# Altium footprint library PCBLib.PcbLib: 21 footprints (part 1 of 2)
Each footprint in its own frame and in the unit in brackets; x right, y up, seen from the top. Pads: shape width x height; smd on the part's side, far side on the other; paste and mask are expansions set on the pad; w line width, h text height; cw(c..) or ccw(c..) is an arc to the next point about the centre after c.
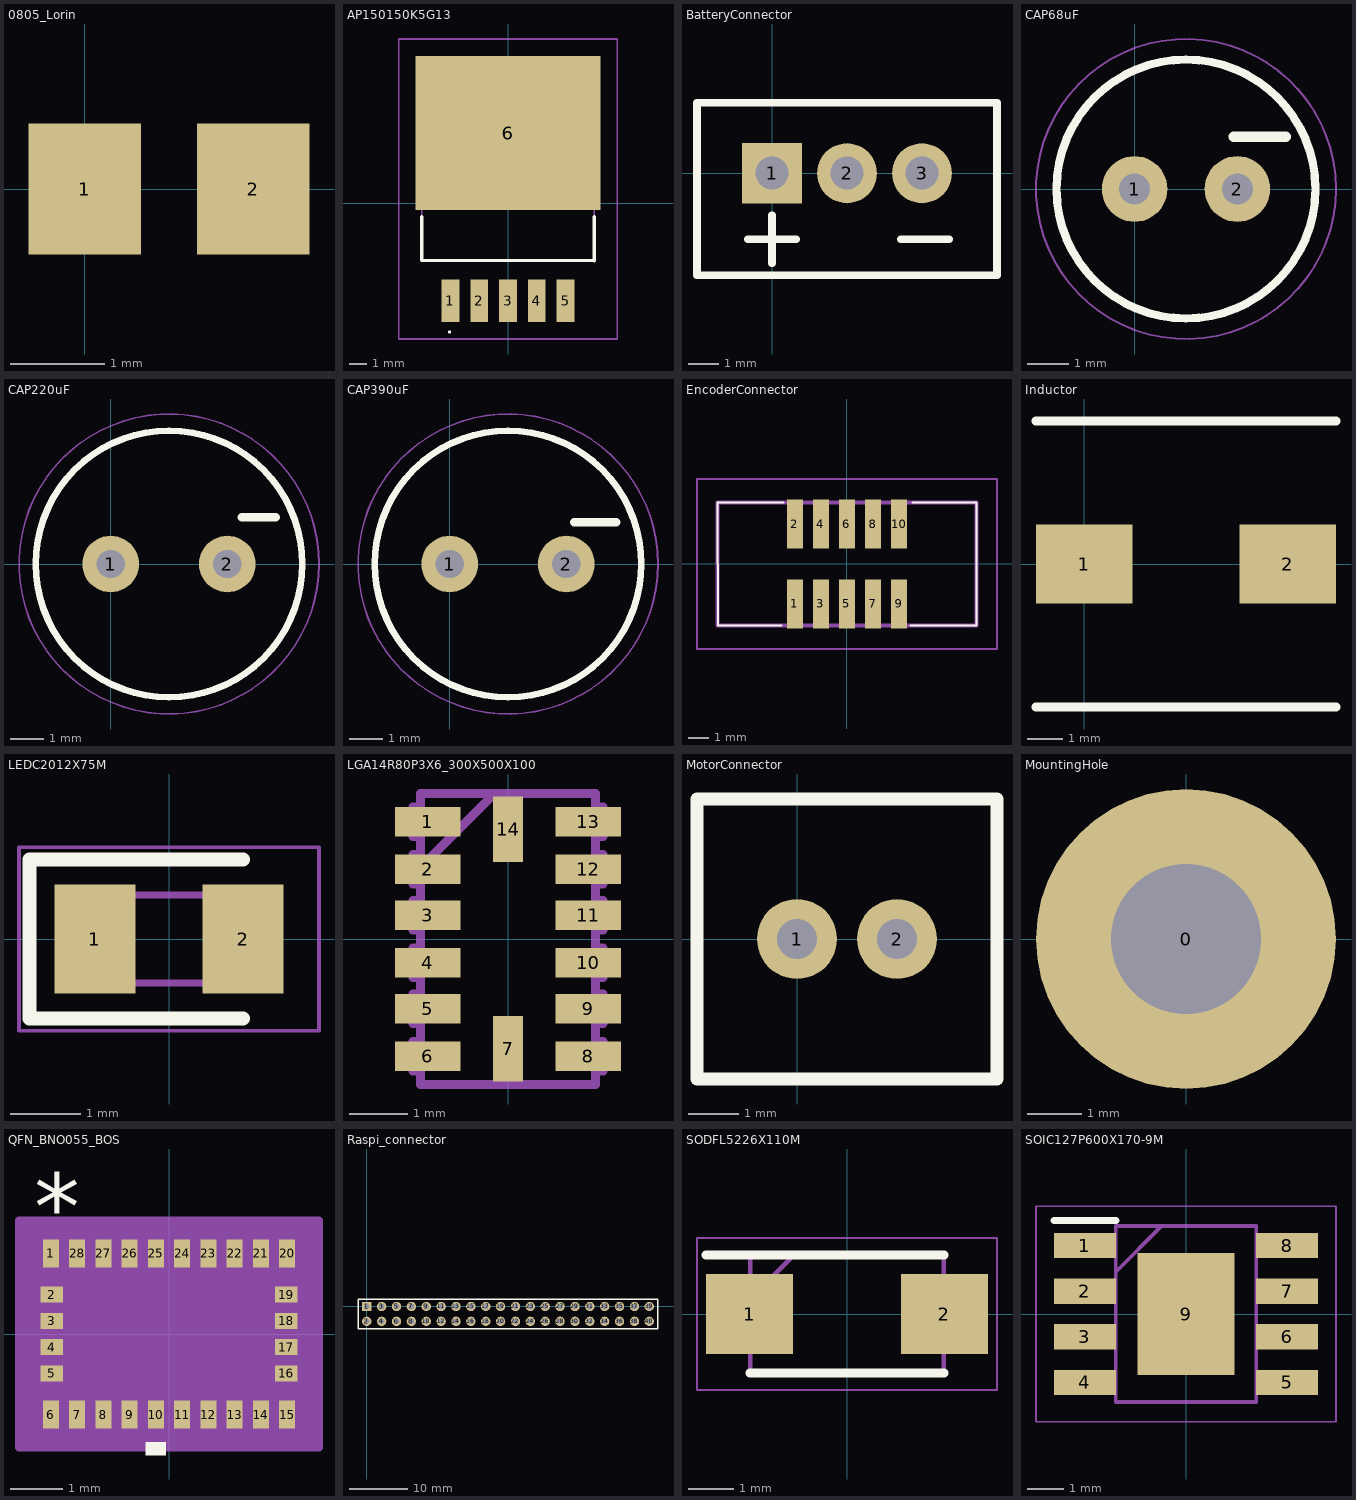
[diagram p0: the footprints below, top view; thin cyan lines are the x and y axes]

## 0805_Lorin [mm]
pads (2):
  rect 1.2x1.4 smd: 1(0,0) 2(1.8,0)

## AP150150K5G13 [mm]
pads (6):
  rect 1.05x2.5 smd: 1(-3.4,-5.765) 2(-1.7,-5.765) 3(0,-5.765) 4(1.7,-5.765) 5(3.4,-5.765)
  rect 10.9x9.1 smd: 6(0,4.135)
Top Overlay:
  lines w0.1: -3.5,-7.6 ccw(c-3.45,-7.6) -3.4,-7.6 ccw(c-3.45,-7.6) -3.5,-7.6
  lines w0.2: -5.08,-0.8 -5.08,-3.385 5.08,-3.4 5.08,-0.8
Mechanical 15:
  lines w0.1: -5.08,-3.385 -5.08,5.765 5.08,5.765 5.08,-3.385 -5.08,-3.385
Mechanical 20:
  lines w0.1: -6.45,-8.015 -6.45,9.685 6.45,9.685 6.45,-8.015 -6.45,-8.015

## BatteryConnector [mm]
pads (3):
  rect 2x2 hole 1.1: 1(0,0)
  round 2 hole 1.1: 2(2.5,0) 3(5,0)
Top Overlay:
  lines w0.254: -0.8,-2.2 0.8,-2.2 ; 0,-3 0,-1.4 ; 4.3,-2.2 5.9,-2.2 ; -2.5,-3.4 7.5,-3.4 7.5,2.35 -2.5,2.35 -2.5,-3.4

## CAP68uF [mm]
pads (2):
  round 1.6 hole 0.75: 1(0,0) 2(2.5,0)
Top Overlay:
  circle w0.2: c1.25,0 r3.15
  lines w0.254: 2.413,1.27 3.683,1.27
Mechanical 15:
  circle w0.1: c1.25,0 r3.15
Mechanical 20:
  circle w0.05: c1.25,0 r3.65

## CAP220uF [mm]
pads (2):
  round 1.7 hole 0.85: 1(0,0) 2(3.5,0)
Top Overlay:
  circle w0.2: c1.75,0 r4
  lines w0.254: 3.937,1.397 4.953,1.397
Mechanical 15:
  circle w0.1: c1.75,0 r4
Mechanical 20:
  circle w0.05: c1.75,0 r4.5

## CAP390uF [mm]
pads (2):
  round 1.7 hole 0.85: 1(0,0) 2(3.5,0)
Top Overlay:
  circle w0.2: c1.75,0 r4
  lines w0.254: 3.73,1.25 5,1.25
Mechanical 15:
  circle w0.1: c1.75,0 r4
Mechanical 20:
  circle w0.05: c1.75,0 r4.5

## EncoderConnector [mm]
pads (10):
  rect 0.76x2.4 smd: 1(-2.54,-1.95) 2(-2.54,1.95) 3(-1.27,-1.95) 4(-1.27,1.95) 5(0,-1.95) 6(0,1.95) 7(1.27,-1.95) 8(1.27,1.95) 9(2.54,-1.95) 10(2.54,1.95)
Top Overlay:
  lines w0.1: -3.2,-3 -6.3,-3 -6.325,3 -3.1,3 ; 3.1,-3 6.325,-3 6.325,3 3.2,3
Mechanical 15:
  lines w0.2: -6.325,-3 -6.325,3 6.325,3 6.325,-3 -6.325,-3
Mechanical 20:
  lines w0.1: -7.325,-4.15 -7.325,4.15 7.325,4.15 7.325,-4.15 -7.325,-4.15

## Inductor [mm]
pads (2):
  rect 2.7x2.2 smd: 1(0,0) 2(5.7,0)
Top Overlay:
  lines w0.254: -1.35,-4 7.05,-4 ; -1.35,4 7.05,4

## LEDC2012X75M [mm]
pads (2):
  rect 1.15x1.55 smd: 1(-1.05,0) 2(1.05,0)
Top Overlay:
  lines w0.2: 1.05,-1.125 -1.975,-1.125 -1.975,1.125 1.05,1.125
Mechanical 15:
  lines w0.1: -1,0.208 -0.583,0.625 ; -1,-0.625 -1,0.625 1,0.625 1,-0.625 -1,-0.625
Mechanical 20:
  lines w0.05: -2.125,-1.3 -2.125,1.3 2.125,1.3 2.125,-1.3 -2.125,-1.3

## LGA14R80P3X6_300X500X100 [mil]
pads (14):
  rect 44x20 smd: 1(-54,79) 2(-54,47) 3(-54,16) 4(-54,-16) 5(-54,-47) 6(-54,-79) 8(54,-79) 9(54,-47) 10(54,-16) 11(54,16) 12(54,47) 13(54,79)
  rect 20x44 smd: 7(0,-74) 14(0,74)
Mechanical 15:
  lines w6: -59,48 -9,98 ; -10,-98 10,-98 ; -10,98 10,98 ; -64,-89 -64,-69 -59,-69 -59,-89 -64,-89 ; -64,-57 -64,-37 -59,-37 -59,-57 -64,-57 ; -64,-26 -64,-6 -59,-6 -59,-26 -64,-26 ; -64,6 -64,26 -59,26 -59,6 -64,6 ; -64,37 -64,57 -59,57 -59,37 -64,37 ; -64,69 -64,89 -59,89 -59,69 -64,69 ; -59,-98 59,-98 59,98 -59,98 -59,-98 ; 59,-89 59,-69 64,-69 64,-89 59,-89 ; 59,-57 59,-37 64,-37 64,-57 59,-57 ; 59,-26 59,-6 64,-6 64,-26 59,-26 ; 59,6 59,26 64,26 64,6 59,6 ; 59,37 59,57 64,57 64,37 59,37 ; 59,69 59,89 64,89 64,69 59,69

## MotorConnector [mm]
pads (2):
  round 1.6 hole 0.8: 1(0,0) 2(2,0)
Top Overlay:
  lines w0.254: -2,-2.8 4,-2.8 4,2.8 -2,2.8 -2,-2.8

## MountingHole [mm]
pads (1):
  round 5.5 hole 2.75: 0(0,0)

## QFN_BNO055_BOS [mil]
pads (28):
  rect 12x21 smd paste+0 mask+0: 1(-88.58,60.5) 6(-88.58,-60.5) 7(-68.9,-60.5) 8(-49.21,-60.5) 9(-29.53,-60.5) 10(-9.84,-60.5) 11(9.84,-60.5) 12(29.53,-60.5) 13(49.21,-60.5) 14(68.9,-60.5) 15(88.58,-60.5) 20(88.58,60.5) 21(68.9,60.5) 22(49.21,60.5) 23(29.53,60.5) 24(9.84,60.5) 25(-9.84,60.5) 26(-29.53,60.5) 27(-49.21,60.5) 28(-68.9,60.5)
  rect 17x12 smd paste+0 mask+0: 2(-88,29.53) 3(-88,9.84) 4(-88,-9.84) 5(-88,-29.53) 16(88,-29.53) 17(88,-9.84) 18(88,9.84) 19(88,29.53)
Top Overlay:
  region: -2.34,-81 -17.34,-81 -17.34,-91 -2.34,-91
  text "*" at -101.08,71 h50
Mechanical 13:
  lines w1: -102.5,25 -52.5,75 ; -102.5,-75 -102.5,75 102.5,75 102.5,-75 -102.5,-75 ; -102.5,-35.53 -96.5,-35.53 -96.5,-23.53 -102.5,-23.53 -102.5,-35.53 ; -102.5,-15.84 -96.5,-15.84 -96.5,-3.84 -102.5,-3.84 -102.5,-15.84 ; -102.5,3.84 -96.5,3.84 -96.5,15.84 -102.5,15.84 -102.5,3.84 ; -102.5,23.53 -96.5,23.53 -96.5,35.53 -102.5,35.53 -102.5,23.53 ; -94.58,-75 -94.58,-71 -82.58,-71 -82.58,-75 -94.58,-75 ; -94.58,71 -94.58,75 -82.58,75 -82.58,71 -94.58,71 ; -74.9,-75 -74.9,-71 -62.9,-71 -62.9,-75 -74.9,-75 ; -74.9,71 -74.9,75 -62.9,75 -62.9,71 -74.9,71 ; -55.21,-75 -55.21,-71 -43.21,-71 -43.21,-75 -55.21,-75 ; -55.21,71 -55.21,75 -43.21,75 -43.21,71 -55.21,71 ; -35.53,-75 -35.53,-71 -23.53,-71 -23.53,-75 -35.53,-75 ; -35.53,71 -35.53,75 -23.53,75 -23.53,71 -35.53,71 ; -15.84,-75 -15.84,-71 -3.84,-71 -3.84,-75 -15.84,-75 ; -15.84,71 -15.84,75 -3.84,75 -3.84,71 -15.84,71 ; 3.84,-75 3.84,-71 15.84,-71 15.84,-75 3.84,-75 ; 3.84,71 3.84,75 15.84,75 15.84,71 3.84,71 ; 23.53,-75 23.53,-71 35.53,-71 35.53,-75 23.53,-75 ; 23.53,71 23.53,75 35.53,75 35.53,71 23.53,71 ; 43.21,-75 43.21,-71 55.21,-71 55.21,-75 43.21,-75 ; 43.21,71 43.21,75 55.21,75 55.21,71 43.21,71 ; 62.9,-75 62.9,-71 74.9,-71 74.9,-75 62.9,-75 ; 62.9,71 62.9,75 74.9,75 74.9,71 62.9,71 ; 82.58,-75 82.58,-71 94.58,-71 94.58,-75 82.58,-75 ; 82.58,71 82.58,75 94.58,75 94.58,71 82.58,71 ; 96.5,-35.53 96.5,-23.53 102.5,-23.53 102.5,-35.53 96.5,-35.53 ; 96.5,-15.84 96.5,-3.84 102.5,-3.84 102.5,-15.84 96.5,-15.84 ; 96.5,3.84 96.5,15.84 102.5,15.84 102.5,3.84 96.5,3.84 ; 96.5,23.53 96.5,35.53 102.5,35.53 102.5,23.53 96.5,23.53
  text "*" at -101.08,25 h50
Mechanical 15:
  region: -84.9,-85 -112.5,-85 -112.5,-45.53 -112.5,45.53 -112.5,85 -84.9,85 84.9,85 112.5,85 112.5,45.53 112.5,-45.53 112.5,-85 84.9,-85
  lines w6: -112.5,-85 -84.9,-85 84.9,-85 112.5,-85 112.5,-45.53 112.5,45.53 112.5,85 84.9,85 -84.9,85 -112.5,85 -112.5,45.53 -112.5,-45.53 -112.5,-85

## Raspi_connector [mm]
pads (40):
  rect 1.6x1.6 hole 1: 1(0,0)
  round 1.6 hole 1: 2(0,-2.54) 3(2.54,0) 4(2.54,-2.54) 5(5.08,0) 6(5.08,-2.54) 7(7.62,0) 8(7.62,-2.54) 9(10.16,0) 10(10.16,-2.54) 11(12.7,0) 12(12.7,-2.54) 13(15.24,0) 14(15.24,-2.54) 15(17.78,0) 16(17.78,-2.54) 17(20.32,0) 18(20.32,-2.54) 19(22.86,0) 20(22.86,-2.54) 21(25.4,0) 22(25.4,-2.54) 23(27.94,0) 24(27.94,-2.54) 25(30.48,0) 26(30.48,-2.54) 27(33.02,0) 28(33.02,-2.54) 29(35.56,0) 30(35.56,-2.54) 31(38.1,0) 32(38.1,-2.54) 33(40.64,0) 34(40.64,-2.54) 35(43.18,0) 36(43.18,-2.54) 37(45.72,0) 38(45.72,-2.54) 39(48.26,0) 40(48.26,-2.54)
Top Overlay:
  lines w0.254: -1.5,-3.79 49.75,-3.79 49.75,1.21 -1.5,1.21 -1.5,-3.79

## SODFL5226X110M [mm]
pads (2):
  rect 1.92x1.77 smd: 1(-2.15,0) 2(2.15,0)
Top Overlay:
  lines w0.2: -3.11,1.3 2.138,1.3 ; -2.138,-1.3 2.138,-1.3
Mechanical 15:
  lines w0.1: -2.138,0.34 -1.178,1.3 ; -2.138,-1.3 2.138,-1.3 2.138,1.3 -2.138,1.3 -2.138,-1.3
Mechanical 20:
  lines w0.05: -3.31,-1.675 3.31,-1.675 3.31,1.675 -3.31,1.675 -3.31,-1.675

## SOIC127P600X170-9M [mm]
pads (9):
  rect 1.725x0.7 smd: 1(-2.812,1.905) 2(-2.812,0.635) 3(-2.812,-0.635) 4(-2.812,-1.905) 5(2.812,-1.905) 6(2.812,-0.635) 7(2.812,0.635) 8(2.812,1.905)
  rect 2.71x3.4 smd: 9(0,0)
Top Overlay:
  lines w0.2: -3.675,2.605 -1.95,2.605
Mechanical 15:
  lines w0.1: -1.95,1.18 -0.68,2.45 ; -1.95,-2.45 -1.95,2.45 1.95,2.45 1.95,-2.45 -1.95,-2.45
Mechanical 20:
  lines w0.05: -4.175,-3 -4.175,3 4.175,3 4.175,-3 -4.175,-3